# EAGLE library part AO4606 (library micwl)
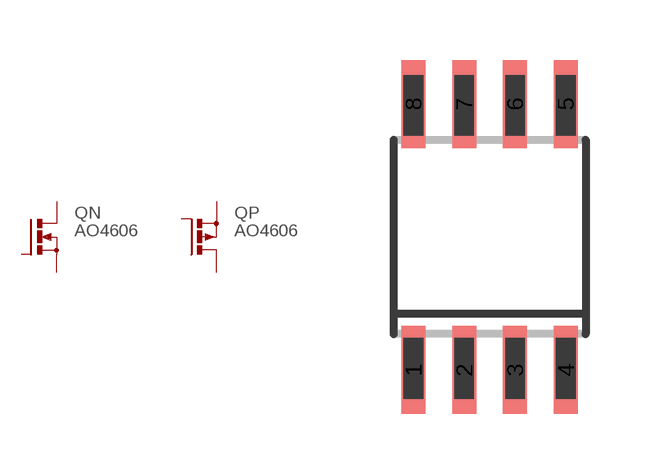
[diagram p4: symbol with the pads of SO-08M; footprint SO-08M]

Designator prefix Q; gates N=MFN P=MFP

## AO4606  [SO-08M]
1  N:S  pas
2  N:G  pas
3  P:D  pas
4  P:D  pas
5  P:G  pas
6  P:S  pas
7  N:D  pas
8  N:D  pas

## Footprint SO-08M (pad centres in mm)
Small Outline Medium Plastic Gull Wing 207-mil body, package type SM
smd 0.6 x 2.2: 1 -1.905,-3.33; 2 -0.635,-3.33; 3 0.635,-3.33; 4 1.905,-3.33; 5 1.905,3.33; 6 0.635,3.33; 7 -0.635,3.33; 8 -1.905,3.33